# EAGLE library part FEDR44V064B-02_FRAM_8K-8_I2C (library df4iah_memory)
FEDR44V064B-02 / MR44V064B 64k Bit(8,192-Word × 8-Bit) FeRAM (Ferroelectric Random Access Memory) I2C 8,192-word × 8-bit configuration I2C BUS Interface A single 3.3 V typ (1.8V to 3.6V) power supply Operating frequency: 3.4MHz(Max) HS-mode 1MHz(Max) F/S-mode Plus Read/write tolerance 1012 cycles/bit Data retention 10 years Guaranteed operating temperature range −40 to 85°C Package options: 8-pin plastic SOP (P-SOP8-200-1.27-T2K) RoHS (Restriction of hazardous substances) compliant
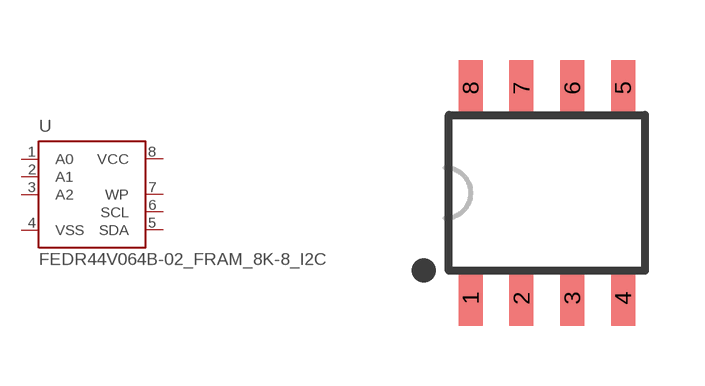
[diagram p81: symbol with the pads of SOIC8_150MIL; footprint SOIC8_150MIL]

Designator prefix U

## FEDR44V064B-02_FRAM_8K-8_I2C  [SOIC8_150MIL]
1  A0  in
2  A1  in
3  A2  in
4  VSS  pwr
5  SDA
6  SCL  in
7  WP  in
8  VCC  pwr

## Footprint SOIC8_150MIL (pad centres in mm)
Plastic Small Outline - SOIC8 150 mils CASE 751BD
smd 0.6 x 1.4: 1 -1.905,-2.63; 2 -0.635,-2.63; 3 0.635,-2.63; 4 1.905,-2.63; 5 1.905,2.63; 6 0.635,2.63; 7 -0.635,2.63; 8 -1.905,2.63